# Altium integrated library ON Semi MOSFETs.IntLib: 1097 symbols (part 24 of 26)
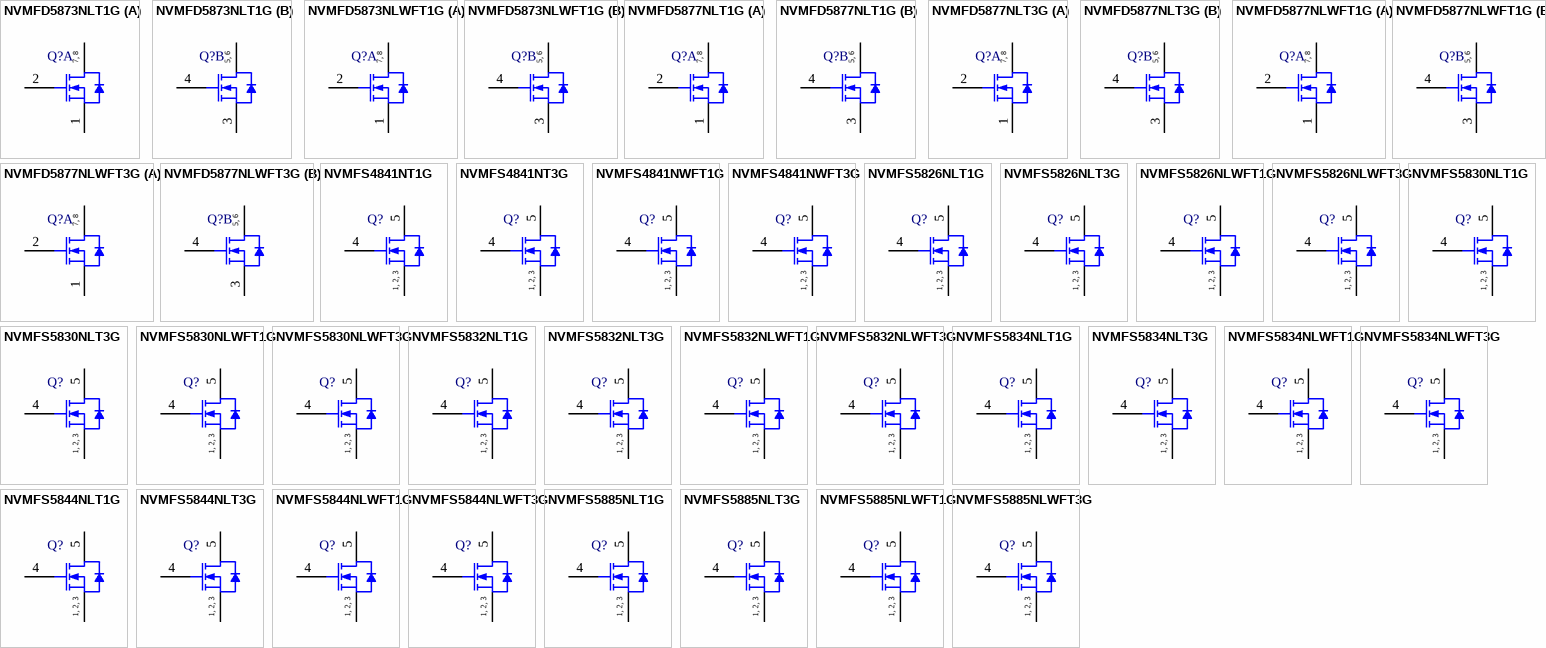
[diagram p54: symbols NVMFD5873NLT1G to NVMFS5885NLWFT3G]

## NVMFS5834NLT3G
designator Q?
Power MOSFET, 40 V, 75 A, 9.3 mOhm, Single N-Channel, 5-Pin DFN, Pb-Free, Tape and Reel; Manufacturer: On Semiconductor; PartNumber: NVMFS5834NLT3G; Channel Polarity: N Channel; Ciss Typ (pF): 1231; Coss Typ (pF): 198; Crss Typ (pF): 141; ID Max (A): 75; Qrr Typ (nC): 108; V(BR)DSS Min (V): 40; VGS Max (V): 20; VGS(th) Max (V): 3; DatasheetVersion: Rev. 5; PackageVersion: Rev. H, 03/2013; PackageReference: DFN-5-488AA; PackageDescription: 5-Pin Small Outline No-Lead, Body 4.9 x 5.9 mm, Pitch 1.27 mm; Supplier 1: Newark; Supplier Part Number 1: 60W1858; Supplier 2: Mouser; Supplier Part Number 2: 863-NVMFS5834NLT3G; Configuration: Single; Package Type: SO-8FL / DFN-5; Packing: Tape and Reel; RoHS: Pb-Free; Mounting Technology: Surface Mount; Code_JEDEC: MO-240A; ComponentLink1Description: Manufacturer URL; ComponentLink1URL: http://www.onsemi.com/; ComponentLink2Description: Datasheet; ComponentLink2URL: http://www.onsemi.com/pub_link/Collateral/NTMFS5834NL-D.PDF; ComponentLink3Description: Package Specification; ComponentLink3URL: http://www.onsemi.com/pub_link/Collateral/488AA.PDF
footprint ONSC-DFN-5-488AA_V (DFN, 5-Leads, Body 5.9x4.9mm, Pitch 1.27mm)
pins: 1 S, 2 S, 3 S, 4 G, 5 D
text: 1, 2, 3

## NVMFS5834NLWFT1G
designator Q?
Power MOSFET, 40 V, 75 A, 9.3 mOhm, Single N-Channel, 5-Pin DFN, Pb-Free, Tape and Reel; Manufacturer: On Semiconductor; PartNumber: NVMFS5834NLWFT1G; Channel Polarity: N Channel; Ciss Typ (pF): 1231; Coss Typ (pF): 198; Crss Typ (pF): 141; ID Max (A): 75; Qrr Typ (nC): 108; V(BR)DSS Min (V): 40; VGS Max (V): 20; VGS(th) Max (V): 3; DatasheetVersion: Rev. 5; PackageVersion: Rev. H, 03/2013; PackageReference: DFN-5-488AA; PackageDescription: 5-Pin Small Outline No-Lead, Body 4.9 x 5.9 mm, Pitch 1.27 mm; Supplier 1: Newark; Supplier Part Number 1: 11X3727; Supplier 2: Mouser; Supplier Part Number 2: 863-NVMFS5834NLWFT1G; Configuration: Single; Package Type: SO-8FL / DFN-5; Packing: Tape and Reel; RoHS: Pb-Free; Mounting Technology: Surface Mount; Code_JEDEC: MO-240A; ComponentLink1Description: Manufacturer URL; ComponentLink1URL: http://www.onsemi.com/; ComponentLink2Description: Datasheet; ComponentLink2URL: http://www.onsemi.com/pub_link/Collateral/NTMFS5834NL-D.PDF; ComponentLink3Description: Package Specification; ComponentLink3URL: http://www.onsemi.com/pub_link/Collateral/488AA.PDF
footprint ONSC-DFN-5-488AA_V (DFN, 5-Leads, Body 5.9x4.9mm, Pitch 1.27mm)
pins: 1 S, 2 S, 3 S, 4 G, 5 D
text: 1, 2, 3

## NVMFS5834NLWFT3G
designator Q?
Power MOSFET, 40 V, 75 A, 9.3 mOhm, Single N-Channel, 5-Pin DFN, Pb-Free, Tape and Reel; Manufacturer: On Semiconductor; PartNumber: NVMFS5834NLWFT3G; Channel Polarity: N Channel; Ciss Typ (pF): 1231; Coss Typ (pF): 198; Crss Typ (pF): 141; ID Max (A): 75; Qrr Typ (nC): 108; V(BR)DSS Min (V): 40; VGS Max (V): 20; VGS(th) Max (V): 3; DatasheetVersion: Rev. 5; PackageVersion: Rev. H, 03/2013; PackageReference: DFN-5-488AA; PackageDescription: 5-Pin Small Outline No-Lead, Body 4.9 x 5.9 mm, Pitch 1.27 mm; Supplier 1: Newark; Supplier Part Number 1: 11X3728; Supplier 2: Mouser; Supplier Part Number 2: 863-NVMFS5834NLWFT3G; Configuration: Single; Package Type: SO-8FL / DFN-5; Packing: Tape and Reel; RoHS: Pb-Free; Mounting Technology: Surface Mount; Code_JEDEC: MO-240A; ComponentLink1Description: Manufacturer URL; ComponentLink1URL: http://www.onsemi.com/; ComponentLink2Description: Datasheet; ComponentLink2URL: http://www.onsemi.com/pub_link/Collateral/NTMFS5834NL-D.PDF; ComponentLink3Description: Package Specification; ComponentLink3URL: http://www.onsemi.com/pub_link/Collateral/488AA.PDF
footprint ONSC-DFN-5-488AA_V (DFN, 5-Leads, Body 5.9x4.9mm, Pitch 1.27mm)
pins: 1 S, 2 S, 3 S, 4 G, 5 D
text: 1, 2, 3

## NVMFS5844NLT1G
designator Q?
Power MOSFET, 60 V, 61 A, 12 mOhm, Single N-Channel, 5-Pin DFN, Pb-Free, Tape and Reel; Manufacturer: On Semiconductor; PartNumber: NVMFS5844NLT1G; Channel Polarity: N Channel; Ciss Typ (pF): 1460; Coss Typ (pF): 150; Crss Typ (pF): 96; ID Max (A): 61; Qrr Typ (nC): 15; V(BR)DSS Min (V): 60; VGS Max (V): 20; VGS(th) Max (V): 2.3; DatasheetVersion: Rev. 5; PackageVersion: Rev. H, 03/2013; PackageReference: DFN-5-488AA; PackageDescription: 5-Pin Small Outline No-Lead, Body 4.9 x 5.9 mm, Pitch 1.27 mm; Supplier 1: Digi-Key; Supplier Part Number 1: NVMFS5844NLT1G-ND; Supplier 2: Newark; Supplier Part Number 2: 07W7328; Supplier 3: Mouser; Supplier Part Number 3: 863-NVMFS5844NLT1G; Configuration: Single; Package Type: SO-8FL / DFN-5; Packing: Tape and Reel; RoHS: Pb-Free; Mounting Technology: Surface Mount; Code_JEDEC: MO-240A; ComponentLink1Description: Manufacturer URL; ComponentLink1URL: http://www.onsemi.com/; ComponentLink2Description: Datasheet; ComponentLink2URL: http://www.onsemi.com/pub_link/Collateral/NTMFS5844NL-D.PDF; ComponentLink3Description: Package Specification; ComponentLink3URL: http://www.onsemi.com/pub_link/Collateral/488AA.PDF
footprint ONSC-DFN-5-488AA_V (DFN, 5-Leads, Body 5.9x4.9mm, Pitch 1.27mm)
pins: 1 S, 2 S, 3 S, 4 G, 5 D
text: 1, 2, 3

## NVMFS5844NLT3G
designator Q?
Power MOSFET, 60 V, 61 A, 12 mOhm, Single N-Channel, 5-Pin DFN, Pb-Free, Tape and Reel; Manufacturer: On Semiconductor; PartNumber: NVMFS5844NLT3G; Channel Polarity: N Channel; Ciss Typ (pF): 1460; Coss Typ (pF): 150; Crss Typ (pF): 96; ID Max (A): 61; Qrr Typ (nC): 15; V(BR)DSS Min (V): 60; VGS Max (V): 20; VGS(th) Max (V): 2.3; DatasheetVersion: Rev. 5; PackageVersion: Rev. H, 03/2013; PackageReference: DFN-5-488AA; PackageDescription: 5-Pin Small Outline No-Lead, Body 4.9 x 5.9 mm, Pitch 1.27 mm; Supplier 1: Digi-Key; Supplier Part Number 1: NVMFS5844NLT3G-ND; Supplier 2: Newark; Supplier Part Number 2: 07W7329; Supplier 3: Mouser; Supplier Part Number 3: 863-NVMFS5844NLT3G; Configuration: Single; Package Type: SO-8FL / DFN-5; Packing: Tape and Reel; RoHS: Pb-Free; Mounting Technology: Surface Mount; Code_JEDEC: MO-240A; ComponentLink1Description: Manufacturer URL; ComponentLink1URL: http://www.onsemi.com/; ComponentLink2Description: Datasheet; ComponentLink2URL: http://www.onsemi.com/pub_link/Collateral/NTMFS5844NL-D.PDF; ComponentLink3Description: Package Specification; ComponentLink3URL: http://www.onsemi.com/pub_link/Collateral/488AA.PDF
footprint ONSC-DFN-5-488AA_V (DFN, 5-Leads, Body 5.9x4.9mm, Pitch 1.27mm)
pins: 1 S, 2 S, 3 S, 4 G, 5 D
text: 1, 2, 3

## NVMFS5844NLWFT1G
designator Q?
Power MOSFET, 60 V, 61 A, 12 mOhm, Single N-Channel, 5-Pin DFN, Pb-Free, Tape and Reel; Manufacturer: On Semiconductor; PartNumber: NVMFS5844NLWFT1G; Channel Polarity: N Channel; Ciss Typ (pF): 1460; Coss Typ (pF): 150; Crss Typ (pF): 96; ID Max (A): 61; Qrr Typ (nC): 15; V(BR)DSS Min (V): 60; VGS Max (V): 20; VGS(th) Max (V): 2.3; DatasheetVersion: Rev. 5; PackageVersion: Rev. H, 03/2013; PackageReference: DFN-5-488AA; PackageDescription: 5-Pin Small Outline No-Lead, Body 4.9 x 5.9 mm, Pitch 1.27 mm; Supplier 1: Newark; Supplier Part Number 1: 11X3729; Supplier 2: Mouser; Supplier Part Number 2: 863-NVMFS5844NLWFT1G; Configuration: Single; Package Type: SO-8FL / DFN-5; Packing: Tape and Reel; RoHS: Pb-Free; Mounting Technology: Surface Mount; Code_JEDEC: MO-240A; ComponentLink1Description: Manufacturer URL; ComponentLink1URL: http://www.onsemi.com/; ComponentLink2Description: Datasheet; ComponentLink2URL: http://www.onsemi.com/pub_link/Collateral/NTMFS5844NL-D.PDF; ComponentLink3Description: Package Specification; ComponentLink3URL: http://www.onsemi.com/pub_link/Collateral/488AA.PDF
footprint ONSC-DFN-5-488AA_V (DFN, 5-Leads, Body 5.9x4.9mm, Pitch 1.27mm)
pins: 1 S, 2 S, 3 S, 4 G, 5 D
text: 1, 2, 3

## NVMFS5844NLWFT3G
designator Q?
Power MOSFET, 60 V, 61 A, 12 mOhm, Single N-Channel, 5-Pin DFN, Pb-Free, Tape and Reel; Manufacturer: On Semiconductor; PartNumber: NVMFS5844NLWFT3G; Channel Polarity: N Channel; Ciss Typ (pF): 1460; Coss Typ (pF): 150; Crss Typ (pF): 96; ID Max (A): 61; Qrr Typ (nC): 15; V(BR)DSS Min (V): 60; VGS Max (V): 20; VGS(th) Max (V): 2.3; DatasheetVersion: Rev. 5; PackageVersion: Rev. H, 03/2013; PackageReference: DFN-5-488AA; PackageDescription: 5-Pin Small Outline No-Lead, Body 4.9 x 5.9 mm, Pitch 1.27 mm; Supplier 1: Newark; Supplier Part Number 1: 11X3730; Supplier 2: Mouser; Supplier Part Number 2: 863-NVMFS5844NLWFT3G; Configuration: Single; Package Type: SO-8FL / DFN-5; Packing: Tape and Reel; RoHS: Pb-Free; Mounting Technology: Surface Mount; Code_JEDEC: MO-240A; ComponentLink1Description: Manufacturer URL; ComponentLink1URL: http://www.onsemi.com/; ComponentLink2Description: Datasheet; ComponentLink2URL: http://www.onsemi.com/pub_link/Collateral/NTMFS5844NL-D.PDF; ComponentLink3Description: Package Specification; ComponentLink3URL: http://www.onsemi.com/pub_link/Collateral/488AA.PDF
footprint ONSC-DFN-5-488AA_V (DFN, 5-Leads, Body 5.9x4.9mm, Pitch 1.27mm)
pins: 1 S, 2 S, 3 S, 4 G, 5 D
text: 1, 2, 3

## NVMFS5885NLT1G
designator Q?
Power MOSFET, 60 V, 39 A, 15 mOhm, Single N-Channel, 5-Pin DFN, Pb-Free, Tape and Reel; Manufacturer: On Semiconductor; PartNumber: NVMFS5885NLT1G; Channel Polarity: N Channel; Ciss Typ (pF): 1340; Coss Typ (pF): 125; Crss Typ (pF): 85; ID Max (A): 39; Qrr Typ (nC): 16; V(BR)DSS Min (V): 60; VGS Max (V): 20; VGS(th) Max (V): 2.5; DatasheetVersion: Rev. 3; PackageVersion: Rev. H, 03/2013; PackageReference: DFN-5-488AA; PackageDescription: 5-Pin Small Outline No-Lead, Body 4.9 x 5.9 mm, Pitch 1.27 mm; Supplier 1: Newark; Supplier Part Number 1: 60W1859; Supplier 2: Mouser; Supplier Part Number 2: 863-NVMFS5885NLT1G; Configuration: Single; Package Type: SO-8FL / DFN-5; Packing: Tape and Reel; RoHS: Pb-Free; Mounting Technology: Surface Mount; Code_JEDEC: MO-240A; ComponentLink1Description: Manufacturer URL; ComponentLink1URL: http://www.onsemi.com/; ComponentLink2Description: Datasheet; ComponentLink2URL: http://www.onsemi.com/pub_link/Collateral/NVMFS5885NL-D.PDF; ComponentLink3Description: Package Specification; ComponentLink3URL: http://www.onsemi.com/pub_link/Collateral/488AA.PDF
footprint ONSC-DFN-5-488AA_V (DFN, 5-Leads, Body 5.9x4.9mm, Pitch 1.27mm)
pins: 1 S, 2 S, 3 S, 4 G, 5 D
text: 1, 2, 3

## NVMFS5885NLT3G
designator Q?
Power MOSFET, 60 V, 39 A, 15 mOhm, Single N-Channel, 5-Pin DFN, Pb-Free, Tape and Reel; Manufacturer: On Semiconductor; PartNumber: NVMFS5885NLT3G; Channel Polarity: N Channel; Ciss Typ (pF): 1340; Coss Typ (pF): 125; Crss Typ (pF): 85; ID Max (A): 39; Qrr Typ (nC): 16; V(BR)DSS Min (V): 60; VGS Max (V): 20; VGS(th) Max (V): 2.5; DatasheetVersion: Rev. 3; PackageVersion: Rev. H, 03/2013; PackageReference: DFN-5-488AA; PackageDescription: 5-Pin Small Outline No-Lead, Body 4.9 x 5.9 mm, Pitch 1.27 mm; Supplier 1: Newark; Supplier Part Number 1: 60W1860; Supplier 2: Mouser; Supplier Part Number 2: 863-NVMFS5885NLT3G; Configuration: Single; Package Type: SO-8FL / DFN-5; Packing: Tape and Reel; RoHS: Pb-Free; Mounting Technology: Surface Mount; Code_JEDEC: MO-240A; ComponentLink1Description: Manufacturer URL; ComponentLink1URL: http://www.onsemi.com/; ComponentLink2Description: Datasheet; ComponentLink2URL: http://www.onsemi.com/pub_link/Collateral/NVMFS5885NL-D.PDF; ComponentLink3Description: Package Specification; ComponentLink3URL: http://www.onsemi.com/pub_link/Collateral/488AA.PDF
footprint ONSC-DFN-5-488AA_V (DFN, 5-Leads, Body 5.9x4.9mm, Pitch 1.27mm)
pins: 1 S, 2 S, 3 S, 4 G, 5 D
text: 1, 2, 3

## NVMFS5885NLWFT1G
designator Q?
Power MOSFET, 60 V, 39 A, 15 mOhm, Single N-Channel, 5-Pin DFN, Pb-Free, Tape and Reel; Manufacturer: On Semiconductor; PartNumber: NVMFS5885NLWFT1G; Channel Polarity: N Channel; Ciss Typ (pF): 1340; Coss Typ (pF): 125; Crss Typ (pF): 85; ID Max (A): 39; Qrr Typ (nC): 16; V(BR)DSS Min (V): 60; VGS Max (V): 20; VGS(th) Max (V): 2.5; DatasheetVersion: Rev. 3; PackageVersion: Rev. H, 03/2013; PackageReference: DFN-5-488AA; PackageDescription: 5-Pin Small Outline No-Lead, Body 4.9 x 5.9 mm, Pitch 1.27 mm; Supplier 1: Newark; Supplier Part Number 1: 11X3731; Supplier 2: Mouser; Supplier Part Number 2: 863-NVMFS5885NLWFT1G; Configuration: Single; Package Type: SO-8FL / DFN-5; Packing: Tape and Reel; RoHS: Pb-Free; Mounting Technology: Surface Mount; Code_JEDEC: MO-240A; ComponentLink1Description: Manufacturer URL; ComponentLink1URL: http://www.onsemi.com/; ComponentLink2Description: Datasheet; ComponentLink2URL: http://www.onsemi.com/pub_link/Collateral/NVMFS5885NL-D.PDF; ComponentLink3Description: Package Specification; ComponentLink3URL: http://www.onsemi.com/pub_link/Collateral/488AA.PDF
footprint ONSC-DFN-5-488AA_V (DFN, 5-Leads, Body 5.9x4.9mm, Pitch 1.27mm)
pins: 1 S, 2 S, 3 S, 4 G, 5 D
text: 1, 2, 3

## NVMFS5885NLWFT3G
designator Q?
Power MOSFET, 60 V, 39 A, 15 mOhm, Single N-Channel, 5-Pin DFN, Pb-Free, Tape and Reel; Manufacturer: On Semiconductor; PartNumber: NVMFS5885NLWFT3G; Channel Polarity: N Channel; Ciss Typ (pF): 1340; Coss Typ (pF): 125; Crss Typ (pF): 85; ID Max (A): 39; Qrr Typ (nC): 16; V(BR)DSS Min (V): 60; VGS Max (V): 20; VGS(th) Max (V): 2.5; DatasheetVersion: Rev. 3; PackageVersion: Rev. H, 03/2013; PackageReference: DFN-5-488AA; PackageDescription: 5-Pin Small Outline No-Lead, Body 4.9 x 5.9 mm, Pitch 1.27 mm; Supplier 1: Newark; Supplier Part Number 1: 11X3732; Supplier 2: Mouser; Supplier Part Number 2: 863-NVMFS5885NLWFT3G; Configuration: Single; Package Type: SO-8FL / DFN-5; Packing: Tape and Reel; RoHS: Pb-Free; Mounting Technology: Surface Mount; Code_JEDEC: MO-240A; ComponentLink1Description: Manufacturer URL; ComponentLink1URL: http://www.onsemi.com/; ComponentLink2Description: Datasheet; ComponentLink2URL: http://www.onsemi.com/pub_link/Collateral/NVMFS5885NL-D.PDF; ComponentLink3Description: Package Specification; ComponentLink3URL: http://www.onsemi.com/pub_link/Collateral/488AA.PDF
footprint ONSC-DFN-5-488AA_V (DFN, 5-Leads, Body 5.9x4.9mm, Pitch 1.27mm)
pins: 1 S, 2 S, 3 S, 4 G, 5 D
text: 1, 2, 3

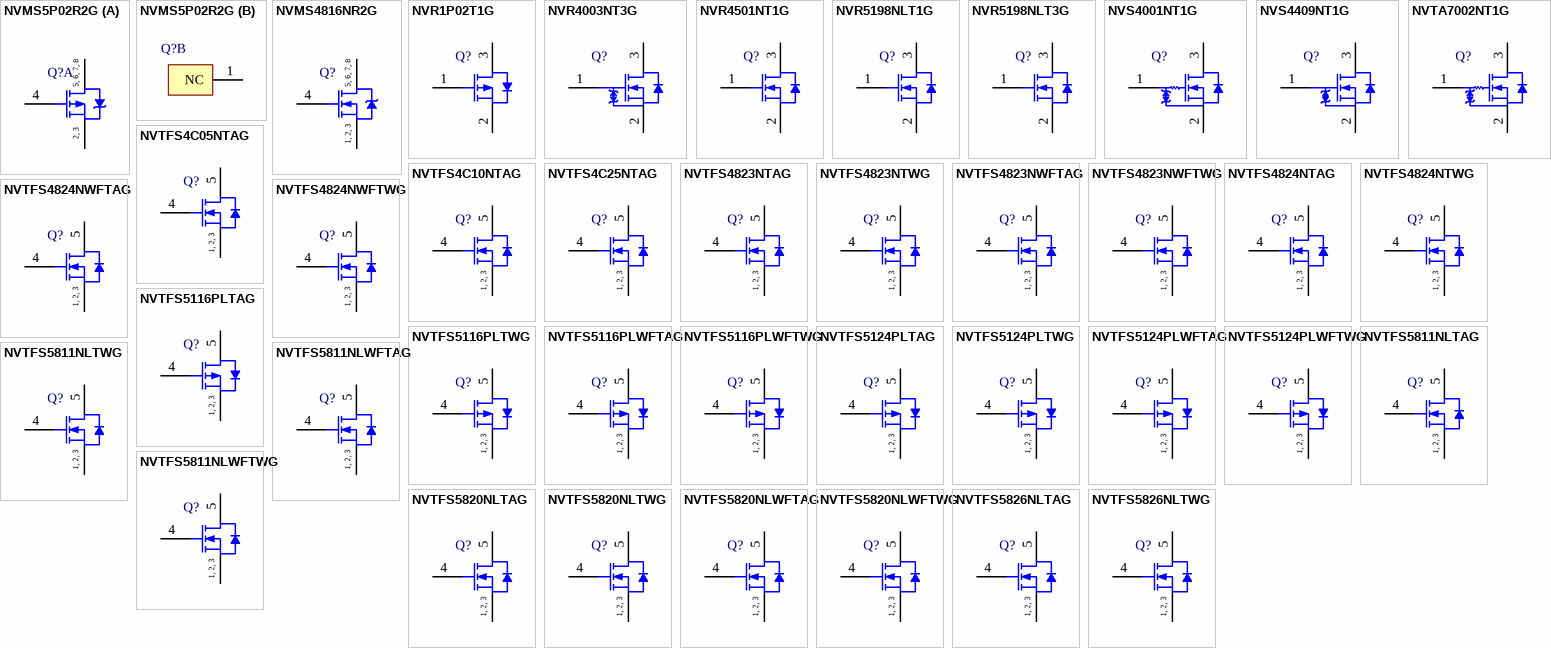
[diagram p29: symbols NVMS5P02R2G to NVTFS5826NLTWG]

## NVMS5P02R2G
designator Q?
Power MOSFET, -5.4 A, -20 V, Single P-Channel Enhancement-Mode, 8-Pin SOIC, Pb-Free, Tape and Reel; Manufacturer: On Semiconductor; PartNumber: NVMS5P02R2G; Channel Polarity: P Channel; Ciss Typ (pF): 1375; Coss Typ (pF): 510; Crss Typ (pF): 200; ID Max (A): 5.4; Qrr Typ (nC): 30; V(BR)DSS Min (V): 20; VGS Max (V): 10; VGS(th) Max (V): 1.25; DatasheetVersion: Rev. 3; PackageVersion: Rev. AK, 02/2011; PackageReference: SOIC-8-751-07; PackageDescription: 8-Pin Small Outline Integrated Circuit, Body 4.9 x 3.9 mm, Pitch 1.27 mm; Configuration: Single; Package Type: SOIC-8; Packing: Tape and Reel; RoHS: Pb-Free; Mounting Technology: Surface Mount; ComponentLink1Description: Manufacturer URL; ComponentLink1URL: http://www.onsemi.com/; ComponentLink2Description: Datasheet; ComponentLink2URL: http://www.onsemi.cn/pub_link/Collateral/NTMS5P02R2-D.PDF; ComponentLink3Description: Package Specification; ComponentLink3URL: http://www.onsemi.com/pub_link/Collateral/751-07.PDF
footprint ONSC-SOIC-8-751-07_V (SOIC, 8-Leads, Body 4.9x3.9mm, Pitch 1.27mm)
part A pins: 2 S, 3 S, 4 G, 5 D, 6 D, 7 D, 8 D
part B pins: 1 NC
part A text: 5, 6, 7, 8; 2, 3

## NVMS4816NR2G
designator Q?
Power MOSFET, 30 V, 11 A, N-Channel, 8-Pin SOIC, Pb-Free, Tape and Reel; Manufacturer: On Semiconductor; PartNumber: NVMS4816NR2G; Channel Polarity: N Channel; Ciss Typ (pF): 1060; Configuration: Single; Coss Typ (pF): 220; Crss Typ (pF): 126; ID Max (A): 11; Qrr Typ (nC): 9; V(BR)DSS Min (V): 30; VGS Max (V): 20; VGS(th) Max (V): 3; DatasheetVersion: Rev. 2; PackageVersion: Rev. AK, 02/2011; PackageReference: SOIC-8-751-07; PackageDescription: 8-Pin Small Outline Integrated Circuit, Body 4.9 x 3.9 mm, Pitch 1.27 mm; Package Type: SOIC-8; Packing: Tape and Reel; RoHS: Pb-Free; Mounting Technology: Surface Mount; ComponentLink1Description: Manufacturer URL; ComponentLink1URL: http://www.onsemi.com/; ComponentLink2Description: Datasheet; ComponentLink2URL: http://www.onsemi.cn/pub_link/Collateral/NTMS4816N-D.PDF; ComponentLink3Description: Package Specification; ComponentLink3URL: http://www.onsemi.com/pub_link/Collateral/751-07.PDF
footprint ONSC-SOIC-8-751-07_V (SOIC, 8-Leads, Body 4.9x3.9mm, Pitch 1.27mm)
pins: 1 S, 2 S, 3 S, 4 G, 5 D, 6 D, 7 D, 8 D
text: 5, 6, 7, 8; 1, 2, 3

## NVR1P02T1G
designator Q?
Power MOSFET, -20 V, -1 A, P-Channel, 3-Pin SOT-23, Pb-Free, Tape and Reel; Manufacturer: On Semiconductor; PartNumber: NVR1P02T1G; Channel Polarity: P Channel; Ciss Typ (pF): 165; Configuration: Single; Coss Typ (pF): 110; Crss Typ (pF): 35; ID Max (A): 1; PD Max (W): 0.4; Qrr Typ (nC): 8; V(BR)DSS Min (V): 20; VGS(th) Max (V): 2.3; DatasheetVersion: Rev. 7; PackageVersion: Rev. AP, 11/2009; PackageReference: SOT-23-3-318-08; PackageDescription: 3-Pin Small Outline Transistor, Body 2.92 x 1.3 mm, Pitch 0.95 mm; Package Type: SOT-23-3; Packing: Tape and Reel; RoHS: Pb-Free; VGS Max (V): 20; Mounting Technology: Surface Mount; ComponentLink1Description: Manufacturer URL; ComponentLink1URL: http://www.onsemi.com/; ComponentLink2Description: Datasheet; ComponentLink2URL: http://www.onsemi.cn/pub_link/Collateral/NTR1P02T1-D.PDF; ComponentLink3Description: Package Specification; ComponentLink3URL: http://www.onsemi.cn/pub_link/Collateral/318-08.PDF
footprint ONSC-SOT-23-3-318-08_V (SOT23, 3-Leads, Body 2.92x1.3mm, Pitch 0.95mm)
pins: 1 G, 2 S, 3 D

## NVR4003NT3G
designator Q?
Small Signal MOSFET, 30 V, 0.56 A, Single N-Channel, 3-Pin SOT-23, Pb-Free, Tape and Reel; Manufacturer: On Semiconductor; PartNumber: NVR4003NT3G; Channel Polarity: N Channel; Ciss Typ (pF): 21; Coss Typ (pF): 19.7; Crss Typ (pF): 8.1; ID Max (A): 0.56; V(BR)DSS Min (V): 30; VGS Max (V): 20; VGS(th) Max (V): 1.4; DatasheetVersion: Rev. 3; PackageVersion: Rev. AP, 11/2009; PackageReference: SOT-23-3-318-08; PackageDescription: 3-Pin Small Outline Transistor, Body 2.92 x 1.3 mm, Pitch 0.95 mm; Supplier 1: Digi-Key; Supplier Part Number 1: NVR4003NT3G-ND; Supplier 2: Newark; Supplier Part Number 2: 76T6792; Supplier 3: Mouser; Supplier Part Number 3: 863-NVR4003NT3G; Configuration: Single; Package Type: SOT-23-3; Packing: Tape and Reel; RoHS: Pb-Free; Mounting Technology: Surface Mount; ComponentLink1Description: Manufacturer URL; ComponentLink1URL: http://www.onsemi.com/; ComponentLink2Description: Datasheet; ComponentLink2URL: http://www.onsemi.cn/pub_link/Collateral/NTR4003N-D.PDF; ComponentLink3Description: Package Specification; ComponentLink3URL: http://www.onsemi.cn/pub_link/Collateral/318-08.PDF
footprint ONSC-SOT-23-3-318-08_V (SOT23, 3-Leads, Body 2.92x1.3mm, Pitch 0.95mm)
pins: 1 G, 2 S, 3 D

## NVR4501NT1G
designator Q?
Power MOSFET, 20 V, 3.2 A, Single N-Channel, 3-Pin SOT-23, Pb-Free, Tape and Reel; Manufacturer: On Semiconductor; PartNumber: NVR4501NT1G; Channel Polarity: N Channel; Ciss Typ (pF): 200; Coss Typ (pF): 80; Crss Typ (pF): 50; PD Max (W): 1.25; Qrr Typ (nC): 3; V(BR)DSS Min (V): 20; VGS Max (V): 12; VGS(th) Max (V): 1.2; DatasheetVersion: Rev. 13; PackageVersion: Rev. AP, 11/2009; PackageReference: SOT-23-3-318-08; PackageDescription: 3-Pin Small Outline Transistor, Body 2.92 x 1.3 mm, Pitch 0.95 mm; Supplier 1: Newark; Supplier Part Number 1: 60W1861; Supplier 2: Mouser; Supplier Part Number 2: 863-NVR4501NT1G; Configuration: Single; Package Type: SOT-23-3; Packing: Tape and Reel; RoHS: Pb-Free; Mounting Technology: Surface Mount; ComponentLink1Description: Manufacturer URL; ComponentLink1URL: http://www.onsemi.com/; ComponentLink2Description: Datasheet; ComponentLink2URL: http://www.onsemi.cn/pub_link/Collateral/NTR4501N-D.PDF; ComponentLink3Description: Package Specification; ComponentLink3URL: http://www.onsemi.cn/pub_link/Collateral/318-08.PDF
footprint ONSC-SOT-23-3-318-08_V (SOT23, 3-Leads, Body 2.92x1.3mm, Pitch 0.95mm)
pins: 1 G, 2 S, 3 D

## NVR5198NLT1G
designator Q?
Power MOSFET, 60 V, 155 mOhm, Single N-Channel Logic Level, 3-Pin SOT-23, Pb-Free, Tape and Reel; Manufacturer: On Semiconductor; PartNumber: NVR5198NLT1G; Channel Polarity: N Channel; Ciss Typ (pF): 182; Coss Typ (pF): 25; Crss Typ (pF): 16; ID Max (A): 2.2; Qrr Typ (nC): 6; V(BR)DSS Min (V): 60; VGS Max (V): 20; VGS(th) Max (V): 2.5; DatasheetVersion: Rev. 1; PackageVersion: Rev. AP, 11/2009; PackageReference: SOT-23-3-318-08; PackageDescription: 3-Pin Small Outline Transistor, Body 2.92 x 1.3 mm, Pitch 0.95 mm; Supplier 1: Newark; Supplier Part Number 1: 11X3733; Supplier 2: Mouser; Supplier Part Number 2: 863-NVR5198NLT1G; Configuration: Single; Package Type: SOT-23-3; Packing: Tape and Reel; RoHS: Pb-Free; Mounting Technology: Surface Mount; ComponentLink1Description: Manufacturer URL; ComponentLink1URL: http://www.onsemi.com/; ComponentLink2Description: Datasheet; ComponentLink2URL: http://www.onsemi.com/pub_link/Collateral/NVR5198NL-D.PDF; ComponentLink3Description: Package Specification; ComponentLink3URL: http://www.onsemi.cn/pub_link/Collateral/318-08.PDF
footprint ONSC-SOT-23-3-318-08_V (SOT23, 3-Leads, Body 2.92x1.3mm, Pitch 0.95mm)
pins: 1 G, 2 S, 3 D

## NVR5198NLT3G
designator Q?
Power MOSFET, 60 V, 155 mOhm, Single N-Channel Logic Level, 3-Pin SOT-23, Pb-Free, Tape and Reel; Manufacturer: On Semiconductor; PartNumber: NVR5198NLT3G; Channel Polarity: N Channel; Ciss Typ (pF): 182; Coss Typ (pF): 25; Crss Typ (pF): 16; ID Max (A): 2.2; Qrr Typ (nC): 6; V(BR)DSS Min (V): 60; VGS Max (V): 20; VGS(th) Max (V): 2.5; DatasheetVersion: Rev. 1; PackageVersion: Rev. AP, 11/2009; PackageReference: SOT-23-3-318-08; PackageDescription: 3-Pin Small Outline Transistor, Body 2.92 x 1.3 mm, Pitch 0.95 mm; Supplier 1: Newark; Supplier Part Number 1: 11X3734; Supplier 2: Mouser; Supplier Part Number 2: 863-NVR5198NLT3G; Configuration: Single; Package Type: SOT-23-3; Packing: Tape and Reel; RoHS: Pb-Free; Mounting Technology: Surface Mount; ComponentLink1Description: Manufacturer URL; ComponentLink1URL: http://www.onsemi.com/; ComponentLink2Description: Datasheet; ComponentLink2URL: http://www.onsemi.com/pub_link/Collateral/NVR5198NL-D.PDF; ComponentLink3Description: Package Specification; ComponentLink3URL: http://www.onsemi.cn/pub_link/Collateral/318-08.PDF
footprint ONSC-SOT-23-3-318-08_V (SOT23, 3-Leads, Body 2.92x1.3mm, Pitch 0.95mm)
pins: 1 G, 2 S, 3 D

## NVS4001NT1G
designator Q?
Small Signal MOSFET, 30 V, 270 mA, N-Channel, 3-Pin SC70, Pb-Free, Tape and Reel; Manufacturer: On Semiconductor; PartNumber: NVS4001NT1G; Channel Polarity: N Channel; Ciss Typ (pF): 20; Configuration: Single; Coss Typ (pF): 19; Crss Typ (pF): 7.25; ID Max (A): 0.27; PD Max (W): 0.33; V(BR)DSS Min (V): 30; VGS(th) Max (V): 1.5; DatasheetVersion: Rev. 5; PackageVersion: Rev. N, 11/2008; PackageReference: SC-70-3-419-04; PackageDescription: 3-Pin Small Outline Transistor, Body 2 x 1.25 mm, Pitch 0.65 mm; Supplier 1: Newark; Supplier Part Number 1: 60W1862; Supplier 2: Mouser; Supplier Part Number 2: 863-NVS4001NT1G; Package Type: SC-70-3; Packing: Tape and Reel; RoHS: Pb-Free; VGS Max (V): 20; Mounting Technology: Surface Mount; ComponentLink1Description: Manufacturer URL; ComponentLink1URL: http://www.onsemi.com/; ComponentLink2Description: Datasheet; ComponentLink2URL: http://www.onsemi.cn/pub_link/Collateral/NTS4001N-D.PDF; ComponentLink3Description: Package Specification; ComponentLink3URL: http://www.onsemi.cn/pub_link/Collateral/419-04.PDF
footprint ONSC-SC-70-3-419-04_V (SOT23, 3-Leads, Body 2x1.25mm, Pitch 0.65mm)
pins: 1 G, 2 S, 3 D

## NVS4409NT1G
designator Q?
Small Signal MOSFET, 25 V, 0.75 A, Single, N-Channel, ESD Protection, 3-Pin SOT-323, Pb-Free, Tape and Reel; Manufacturer: On Semiconductor; PartNumber: NVS4409NT1G; Channel Polarity: N Channel; Ciss Typ (pF): 49; Coss Typ (pF): 22.4; Crss Typ (pF): 8; ID Max (A): 0.75; V(BR)DSS Min (V): 25; VGS(th) Max (V): 1.5; DatasheetVersion: Rev. 4; PackageVersion: Rev. N, 11/2008; PackageReference: SOT-323-3-419-04; PackageDescription: 3-Pin Small Outline Transistor, Body 2 x 1.25 mm, Pitch 0.65 mm; Supplier 1: Newark; Supplier Part Number 1: 92T2215; Supplier 2: Mouser; Supplier Part Number 2: 863-NVS4409NT1G; Configuration: Single; Package Type: SC-70-3 / SOT-323-3; Packing: Tape and Reel; RoHS: Pb-Free; VGS Max (V): 8; Mounting Technology: Surface Mount; ComponentLink1Description: Manufacturer URL; ComponentLink1URL: http://www.onsemi.com/; ComponentLink2Description: Datasheet; ComponentLink2URL: http://www.onsemi.cn/pub_link/Collateral/NTS4409N-D.PDF; ComponentLink3Description: Package Specification; ComponentLink3URL: http://www.onsemi.com/pub_link/Collateral/419-04.PDF
footprint ONSC-SOT-323-3-419-04_V (SOT23, 3-Leads, Body 2x1.25mm, Pitch 0.65mm)
pins: 1 G, 2 S, 3 D

## NVTA7002NT1G
designator Q?
Small Signal MOSFET, 30 V, 154 mA, N-Channel, Gate ESD Protection, 3-Pin SC-75, Pb-Free, Tape and Reel; Manufacturer: On Semiconductor; PartNumber: NVTA7002NT1G; Channel Polarity: N Channel; Ciss Typ (pF): 11.5; Configuration: Single; Coss Typ (pF): 10; Crss Typ (pF): 3.5; ID Max (A): 0.154; PD Max (W): 0.3; V(BR)DSS Min (V): 30; VGS(th) Max (V): 1.5; DatasheetVersion: Rev. 5; PackageVersion: Rev. F, 07/2005; PackageReference: SC-75-3-463-01; PackageDescription: 3-Pin Small Outline Transistor, Body 1.6 x 0.8 mm, Pitch 0.5 mm; Package Type: SC-75-3; Packing: Tape and Reel; RoHS: Pb-Free; VGS Max (V): 10; Mounting Technology: Surface Mount; ComponentLink1Description: Manufacturer URL; ComponentLink1URL: http://www.onsemi.com/; ComponentLink2Description: Datasheet; ComponentLink2URL: http://www.onsemi.cn/pub_link/Collateral/NTA7002N-D.PDF; ComponentLink3Description: Package Specification; ComponentLink3URL: http://www.onsemi.com/pub_link/Collateral/463-01.PDF
footprint ONSC-SC-75-3-463-01_V (SOT23, 3-Leads, Body 1.6x0.8mm, Pitch 0.5mm)
pins: 1 G, 2 S, 3 D

## NVTFS4C05NTAG
designator Q?
Power MOSFET, 30 V, 102 A, 3.6 mOhm, Single N-Channel, 8-Pin WDFN, Pb-Free, Tape and Reel; Manufacturer: On Semiconductor; PartNumber: NVTFS4C05NTAG; Channel Polarity: N Channel; Ciss Typ (pF): 1988; Coss Typ (pF): 1224; Crss Typ (pF): 71; ID Max (A): 102; Qrr Typ (nC): 34.4; V(BR)DSS Min (V): 30; VGS Max (V): 20; VGS(th) Max (V): 2.2; DatasheetVersion: Rev. 0; PackageVersion: Rev. D, 04/2012; PackageReference: WDFN-8-511AB; PackageDescription: 8-Pin Small Outline No-Lead, Body 3.05 x 3.05 mm, Pitch 0.65 mm; Supplier 1: Newark; Supplier Part Number 1: 97W6403; Supplier 2: Mouser; Supplier Part Number 2: 863-NVTFS4C05NTAG; Configuration: Single; Package Type: u8FL / WDFN-8; Packing: Tape and Reel; RoHS: Pb-Free; Mounting Technology: Surface Mount; ComponentLink1Description: Manufacturer URL; ComponentLink1URL: http://www.onsemi.com/; ComponentLink2Description: Datasheet; ComponentLink2URL: http://www.onsemi.com/pub_link/Collateral/NVTFS4C05N-D.PDF; ComponentLink3Description: Package Specification; ComponentLink3URL: http://www.onsemi.com/pub_link/Collateral/511AB.PDF
footprint ONSC-WDFN-8-511AB_V (DFN, 8-Leads, Body 3.05x3.05mm, Pitch 0.65mm)
pins: 1 S, 2 S, 3 S, 4 G, 5 D
text: 1, 2, 3

## NVTFS4C10NTAG
designator Q?
Power MOSFET, 30 V, 47 A, 7.4 mOhm, Single N-Channel, 8-Pin WDFN, Pb-Free, Tape and Reel; Manufacturer: On Semiconductor; PartNumber: NVTFS4C10NTAG; Channel Polarity: N Channel; Ciss Typ (pF): 993; Coss Typ (pF): 574; Crss Typ (pF): 163; ID Max (A): 47; Qrr Typ (nC): 8.3; V(BR)DSS Min (V): 30; VGS Max (V): 20; VGS(th) Max (V): 2.2; DatasheetVersion: Rev. 0; PackageVersion: Rev. D, 04/2012; PackageReference: WDFN-8-511AB; PackageDescription: 8-Pin Small Outline No-Lead, Body 3.05 x 3.05 mm, Pitch 0.65 mm; Supplier 1: Newark; Supplier Part Number 1: 97W6404; Supplier 2: Mouser; Supplier Part Number 2: 863-NVTFS4C10NTAG; Configuration: Single; Package Type: u8FL / WDFN-8; Packing: Tape and Reel; RoHS: Pb-Free; Mounting Technology: Surface Mount; ComponentLink1Description: Manufacturer URL; ComponentLink1URL: http://www.onsemi.com/; ComponentLink2Description: Datasheet; ComponentLink2URL: http://www.onsemi.com/pub_link/Collateral/NVTFS4C10N-D.PDF; ComponentLink3Description: Package Specification; ComponentLink3URL: http://www.onsemi.com/pub_link/Collateral/511AB.PDF
footprint ONSC-WDFN-8-511AB_V (DFN, 8-Leads, Body 3.05x3.05mm, Pitch 0.65mm)
pins: 1 S, 2 S, 3 S, 4 G, 5 D
text: 1, 2, 3

## NVTFS4C25NTAG
designator Q?
Power MOSFET, 30 V, 17 mOhm, 22 A, Single N-Channel, 8-Pin WDFN, Pb-Free, Tape and Reel; Manufacturer: On Semiconductor; PartNumber: NVTFS4C25NTAG; Channel Polarity: N Channel; Ciss Typ (pF): 500; Coss Typ (pF): 295; Crss Typ (pF): 85; ID Max (A): 22; Qrr Typ (nC): 5.7; V(BR)DSS Min (V): 30; VGS Max (V): 20; VGS(th) Max (V): 2.2; DatasheetVersion: Rev. 0; PackageVersion: Rev. D, 04/2012; PackageReference: WDFN-8-511AB; PackageDescription: 8-Pin Small Outline No-Lead, Body 3.05 x 3.05 mm, Pitch 0.65 mm; Supplier 1: Newark; Supplier Part Number 1: 97W6405; Supplier 2: Mouser; Supplier Part Number 2: 863-NVTFS4C25NTAG; Configuration: Single; Package Type: u8FL / WDFN-8; Packing: Tape and Reel; RoHS: Pb-Free; Mounting Technology: Surface Mount; ComponentLink1Description: Manufacturer URL; ComponentLink1URL: http://www.onsemi.com/; ComponentLink2Description: Datasheet; ComponentLink2URL: http://www.onsemi.com/pub_link/Collateral/NVTFS4C25N-D.PDF; ComponentLink3Description: Package Specification; ComponentLink3URL: http://www.onsemi.com/pub_link/Collateral/511AB.PDF
footprint ONSC-WDFN-8-511AB_V (DFN, 8-Leads, Body 3.05x3.05mm, Pitch 0.65mm)
pins: 1 S, 2 S, 3 S, 4 G, 5 D
text: 1, 2, 3

## NVTFS4823NTAG
designator Q?
Power MOSFET, 30 V, 30 A, 10.5 mOhm, Single N-Channel, 8-Pin WDFN, Pb-Free, Tape and Reel; Manufacturer: On Semiconductor; PartNumber: NVTFS4823NTAG; Channel Polarity: N Channel; Ciss Typ (pF): 750; Coss Typ (pF): 175; Crss Typ (pF): 100; ID Max (A): 30; Qrr Typ (nC): 5; VGS Max (V): 20; VGS(th) Max (V): 2.5; DatasheetVersion: Rev. 2; PackageVersion: Rev. D, 04/2012; PackageReference: WDFN-8-511AB; PackageDescription: 8-Pin Small Outline No-Lead, Body 3.05 x 3.05 mm, Pitch 0.65 mm; Supplier 1: Digi-Key; Supplier Part Number 1: NVTFS4823NTAG-ND; Supplier 2: Mouser; Supplier Part Number 2: 863-NVTFS4823NTAG; Configuration: Single; Package Type: u8FL / WDFN-8; Packing: Tape and Reel; RoHS: Pb-Free; V(BR)DSS Min (V): 30; Mounting Technology: Surface Mount; ComponentLink1Description: Manufacturer URL; ComponentLink1URL: http://www.onsemi.com/; ComponentLink2Description: Datasheet; ComponentLink2URL: http://www.onsemi.com/pub_link/Collateral/NVTFS4823N-D.PDF; ComponentLink3Description: Package Specification; ComponentLink3URL: http://www.onsemi.com/pub_link/Collateral/511AB.PDF
footprint ONSC-WDFN-8-511AB_V (DFN, 8-Leads, Body 3.05x3.05mm, Pitch 0.65mm)
pins: 1 S, 2 S, 3 S, 4 G, 5 D
text: 1, 2, 3

## NVTFS4823NTWG
designator Q?
Power MOSFET, 30 V, 30 A, 10.5 mOhm, Single N-Channel, 8-Pin WDFN, Pb-Free, Tape and Reel; Manufacturer: On Semiconductor; PartNumber: NVTFS4823NTWG; Channel Polarity: N Channel; Ciss Typ (pF): 750; Coss Typ (pF): 175; Crss Typ (pF): 100; ID Max (A): 30; Qrr Typ (nC): 5; VGS Max (V): 20; VGS(th) Max (V): 2.5; DatasheetVersion: Rev. 2; PackageVersion: Rev. D, 04/2012; PackageReference: WDFN-8-511AB; PackageDescription: 8-Pin Small Outline No-Lead, Body 3.05 x 3.05 mm, Pitch 0.65 mm; Supplier 1: Digi-Key; Supplier Part Number 1: NVTFS4823NTWG-ND; Supplier 2: Mouser; Supplier Part Number 2: 863-NVTFS4823NTWG; Configuration: Single; Package Type: u8FL / WDFN-8; Packing: Tape and Reel; RoHS: Pb-Free; V(BR)DSS Min (V): 30; Mounting Technology: Surface Mount; ComponentLink1Description: Manufacturer URL; ComponentLink1URL: http://www.onsemi.com/; ComponentLink2Description: Datasheet; ComponentLink2URL: http://www.onsemi.com/pub_link/Collateral/NVTFS4823N-D.PDF; ComponentLink3Description: Package Specification; ComponentLink3URL: http://www.onsemi.com/pub_link/Collateral/511AB.PDF
footprint ONSC-WDFN-8-511AB_V (DFN, 8-Leads, Body 3.05x3.05mm, Pitch 0.65mm)
pins: 1 S, 2 S, 3 S, 4 G, 5 D
text: 1, 2, 3

## NVTFS4823NWFTAG
designator Q?
Power MOSFET, 30 V, 30 A, 10.5 mOhm, Single N-Channel, 8-Pin WDFN, Pb-Free, Tape and Reel; Manufacturer: On Semiconductor; PartNumber: NVTFS4823NWFTAG; Channel Polarity: N Channel; Ciss Typ (pF): 750; Coss Typ (pF): 175; Crss Typ (pF): 100; ID Max (A): 30; Qrr Typ (nC): 5; VGS Max (V): 20; VGS(th) Max (V): 2.5; DatasheetVersion: Rev. 2; PackageVersion: Rev. D, 04/2012; PackageReference: WDFN-8-511AB; PackageDescription: 8-Pin Small Outline No-Lead, Body 3.05 x 3.05 mm, Pitch 0.65 mm; Supplier 1: Newark; Supplier Part Number 1: 11X3735; Supplier 2: Mouser; Supplier Part Number 2: 863-NVTFS4823NWFTAG; Configuration: Single; Package Type: u8FL / WDFN-8; Packing: Tape and Reel; RoHS: Pb-Free; V(BR)DSS Min (V): 30; Mounting Technology: Surface Mount; ComponentLink1Description: Manufacturer URL; ComponentLink1URL: http://www.onsemi.com/; ComponentLink2Description: Datasheet; ComponentLink2URL: http://www.onsemi.com/pub_link/Collateral/NVTFS4823N-D.PDF; ComponentLink3Description: Package Specification; ComponentLink3URL: http://www.onsemi.com/pub_link/Collateral/511AB.PDF
footprint ONSC-WDFN-8-511AB_V (DFN, 8-Leads, Body 3.05x3.05mm, Pitch 0.65mm)
pins: 1 S, 2 S, 3 S, 4 G, 5 D
text: 1, 2, 3

## NVTFS4823NWFTWG
designator Q?
Power MOSFET, 30 V, 30 A, 10.5 mOhm, Single N-Channel, 8-Pin WDFN, Pb-Free, Tape and Reel; Manufacturer: On Semiconductor; PartNumber: NVTFS4823NWFTWG; Channel Polarity: N Channel; Ciss Typ (pF): 750; Coss Typ (pF): 175; Crss Typ (pF): 100; ID Max (A): 30; Qrr Typ (nC): 5; VGS Max (V): 20; VGS(th) Max (V): 2.5; DatasheetVersion: Rev. 2; PackageVersion: Rev. D, 04/2012; PackageReference: WDFN-8-511AB; PackageDescription: 8-Pin Small Outline No-Lead, Body 3.05 x 3.05 mm, Pitch 0.65 mm; Supplier 1: Newark; Supplier Part Number 1: 11X3736; Supplier 2: Mouser; Supplier Part Number 2: 863-NVTFS4823NWFTWG; Configuration: Single; Package Type: u8FL / WDFN-8; Packing: Tape and Reel; RoHS: Pb-Free; V(BR)DSS Min (V): 30; Mounting Technology: Surface Mount; ComponentLink1Description: Manufacturer URL; ComponentLink1URL: http://www.onsemi.com/; ComponentLink2Description: Datasheet; ComponentLink2URL: http://www.onsemi.com/pub_link/Collateral/NVTFS4823N-D.PDF; ComponentLink3Description: Package Specification; ComponentLink3URL: http://www.onsemi.com/pub_link/Collateral/511AB.PDF
footprint ONSC-WDFN-8-511AB_V (DFN, 8-Leads, Body 3.05x3.05mm, Pitch 0.65mm)
pins: 1 S, 2 S, 3 S, 4 G, 5 D
text: 1, 2, 3

## NVTFS4824NTAG
designator Q?
Power MOSFET, 30 V, 46 A, 4.7 mOhm, Single N-Channel, 8-Pin WDFN, Pb-Free, Tape and Reel; Manufacturer: On Semiconductor; PartNumber: NVTFS4824NTAG; Channel Polarity: N Channel; Ciss Typ (pF): 1740; Coss Typ (pF): 360; Crss Typ (pF): 200; ID Max (A): 46; Qrr Typ (nC): 8.8; V(BR)DSS Min (V): 30; VGS Max (V): 20; VGS(th) Max (V): 2.5; DatasheetVersion: Rev. 2; PackageVersion: Rev. D, 04/2012; PackageReference: WDFN-8-511AB; PackageDescription: 8-Pin Small Outline No-Lead, Body 3.05 x 3.05 mm, Pitch 0.65 mm; Supplier 1: Digi-Key; Supplier Part Number 1: NVTFS4824NTAG-ND; Supplier 2: Mouser; Supplier Part Number 2: 863-NVTFS4824NTAG; Configuration: Single; Package Type: u8FL / WDFN-8; Packing: Tape and Reel; RoHS: Pb-Free; Mounting Technology: Surface Mount; ComponentLink1Description: Manufacturer URL; ComponentLink1URL: http://www.onsemi.com/; ComponentLink2Description: Datasheet; ComponentLink2URL: http://www.onsemi.com/pub_link/Collateral/NVTFS4824N-D.PDF; ComponentLink3Description: Package Specification; ComponentLink3URL: http://www.onsemi.com/pub_link/Collateral/511AB.PDF
footprint ONSC-WDFN-8-511AB_V (DFN, 8-Leads, Body 3.05x3.05mm, Pitch 0.65mm)
pins: 1 S, 2 S, 3 S, 4 G, 5 D
text: 1, 2, 3

## NVTFS4824NTWG
designator Q?
Power MOSFET, 30 V, 46 A, 4.7 mOhm, Single N-Channel, 8-Pin WDFN, Pb-Free, Tape and Reel; Manufacturer: On Semiconductor; PartNumber: NVTFS4824NTWG; Channel Polarity: N Channel; Ciss Typ (pF): 1740; Coss Typ (pF): 360; Crss Typ (pF): 200; ID Max (A): 46; Qrr Typ (nC): 8.8; V(BR)DSS Min (V): 30; VGS Max (V): 20; VGS(th) Max (V): 2.5; DatasheetVersion: Rev. 2; PackageVersion: Rev. D, 04/2012; PackageReference: WDFN-8-511AB; PackageDescription: 8-Pin Small Outline No-Lead, Body 3.05 x 3.05 mm, Pitch 0.65 mm; Supplier 1: Digi-Key; Supplier Part Number 1: NVTFS4824NTWG-ND; Supplier 2: Mouser; Supplier Part Number 2: 863-NVTFS4824NTWG; Configuration: Single; Package Type: u8FL / WDFN-8; Packing: Tape and Reel; RoHS: Pb-Free; Mounting Technology: Surface Mount; ComponentLink1Description: Manufacturer URL; ComponentLink1URL: http://www.onsemi.com/; ComponentLink2Description: Datasheet; ComponentLink2URL: http://www.onsemi.com/pub_link/Collateral/NVTFS4824N-D.PDF; ComponentLink3Description: Package Specification; ComponentLink3URL: http://www.onsemi.com/pub_link/Collateral/511AB.PDF
footprint ONSC-WDFN-8-511AB_V (DFN, 8-Leads, Body 3.05x3.05mm, Pitch 0.65mm)
pins: 1 S, 2 S, 3 S, 4 G, 5 D
text: 1, 2, 3

## NVTFS4824NWFTAG
designator Q?
Power MOSFET, 30 V, 46 A, 4.7 mOhm, Single N-Channel, 8-Pin WDFN, Pb-Free, Tape and Reel; Manufacturer: On Semiconductor; PartNumber: NVTFS4824NWFTAG; Channel Polarity: N Channel; Ciss Typ (pF): 1740; Coss Typ (pF): 360; Crss Typ (pF): 200; ID Max (A): 46; Qrr Typ (nC): 8.8; V(BR)DSS Min (V): 30; VGS Max (V): 20; VGS(th) Max (V): 2.5; DatasheetVersion: Rev. 2; PackageVersion: Rev. D, 04/2012; PackageReference: WDFN-8-511AB; PackageDescription: 8-Pin Small Outline No-Lead, Body 3.05 x 3.05 mm, Pitch 0.65 mm; Supplier 1: Newark; Supplier Part Number 1: 11X3737; Supplier 2: Mouser; Supplier Part Number 2: 863-NVTFS4824NWFTAG; Configuration: Single; Package Type: u8FL / WDFN-8; Packing: Tape and Reel; RoHS: Pb-Free; Mounting Technology: Surface Mount; ComponentLink1Description: Manufacturer URL; ComponentLink1URL: http://www.onsemi.com/; ComponentLink2Description: Datasheet; ComponentLink2URL: http://www.onsemi.com/pub_link/Collateral/NVTFS4824N-D.PDF; ComponentLink3Description: Package Specification; ComponentLink3URL: http://www.onsemi.com/pub_link/Collateral/511AB.PDF
footprint ONSC-WDFN-8-511AB_V (DFN, 8-Leads, Body 3.05x3.05mm, Pitch 0.65mm)
pins: 1 S, 2 S, 3 S, 4 G, 5 D
text: 1, 2, 3

## NVTFS4824NWFTWG
designator Q?
Power MOSFET, 30 V, 46 A, 4.7 mOhm, Single N-Channel, 8-Pin WDFN, Pb-Free, Tape and Reel; Manufacturer: On Semiconductor; PartNumber: NVTFS4824NWFTWG; Channel Polarity: N Channel; Ciss Typ (pF): 1740; Coss Typ (pF): 360; Crss Typ (pF): 200; ID Max (A): 46; Qrr Typ (nC): 8.8; V(BR)DSS Min (V): 30; VGS Max (V): 20; VGS(th) Max (V): 2.5; DatasheetVersion: Rev. 2; PackageVersion: Rev. D, 04/2012; PackageReference: WDFN-8-511AB; PackageDescription: 8-Pin Small Outline No-Lead, Body 3.05 x 3.05 mm, Pitch 0.65 mm; Supplier 1: Newark; Supplier Part Number 1: 11X3738; Supplier 2: Mouser; Supplier Part Number 2: 863-NVTFS4824NWFTWG; Configuration: Single; Package Type: u8FL / WDFN-8; Packing: Tape and Reel; RoHS: Pb-Free; Mounting Technology: Surface Mount; ComponentLink1Description: Manufacturer URL; ComponentLink1URL: http://www.onsemi.com/; ComponentLink2Description: Datasheet; ComponentLink2URL: http://www.onsemi.com/pub_link/Collateral/NVTFS4824N-D.PDF; ComponentLink3Description: Package Specification; ComponentLink3URL: http://www.onsemi.com/pub_link/Collateral/511AB.PDF
footprint ONSC-WDFN-8-511AB_V (DFN, 8-Leads, Body 3.05x3.05mm, Pitch 0.65mm)
pins: 1 S, 2 S, 3 S, 4 G, 5 D
text: 1, 2, 3

## NVTFS5116PLTAG
designator Q?
Power MOSFET, -60 V, -14 A, 52 mOhm, Single P-Channel, 8-Pin WDFN, Pb-Free, Tape and Reel; Manufacturer: On Semiconductor; PartNumber: NVTFS5116PLTAG; Channel Polarity: P Channel; Ciss Typ (pF): 1258; Coss Typ (pF): 127; Crss Typ (pF): 84; ID Max (A): 14; Qrr Typ (nC): 24; V(BR)DSS Min (V): 60; VGS Max (V): 20; VGS(th) Max (V): 3; DatasheetVersion: Rev. 2; PackageVersion: Rev. D, 04/2012; PackageReference: WDFN-8-511AB; PackageDescription: 8-Pin Small Outline No-Lead, Body 3.05 x 3.05 mm, Pitch 0.65 mm; Supplier 1: Digi-Key; Supplier Part Number 1: NVTFS5116PLTAG-ND; Supplier 2: Newark; Supplier Part Number 2: 65T1524; Supplier 3: Newark; Supplier Part Number 3: 95W2776; Supplier 4: Mouser; Supplier Part Number 4: 863-NVTFS5116PLTAG; Configuration: Single; Package Type: u8FL / WDFN-8; Packing: Tape and Reel; RoHS: Pb-Free; Mounting Technology: Surface Mount; ComponentLink1Description: Manufacturer URL; ComponentLink1URL: http://www.onsemi.com/; ComponentLink2Description: Datasheet; ComponentLink2URL: http://www.onsemi.com/pub_link/Collateral/NVTFS5116PL-D.PDF; ComponentLink3Description: Package Specification; ComponentLink3URL: http://www.onsemi.com/pub_link/Collateral/511AB.PDF
footprint ONSC-WDFN-8-511AB_V (DFN, 8-Leads, Body 3.05x3.05mm, Pitch 0.65mm)
pins: 1 S, 2 S, 3 S, 4 G, 5 D
text: 1, 2, 3

## NVTFS5116PLTWG
designator Q?
Power MOSFET, -60 V, -14 A, 52 mOhm, Single P-Channel, 8-Pin WDFN, Pb-Free, Tape and Reel; Manufacturer: On Semiconductor; PartNumber: NVTFS5116PLTWG; Channel Polarity: P Channel; Ciss Typ (pF): 1258; Coss Typ (pF): 127; Crss Typ (pF): 84; ID Max (A): 14; Qrr Typ (nC): 24; V(BR)DSS Min (V): 60; VGS Max (V): 20; VGS(th) Max (V): 3; DatasheetVersion: Rev. 2; PackageVersion: Rev. D, 04/2012; PackageReference: WDFN-8-511AB; PackageDescription: 8-Pin Small Outline No-Lead, Body 3.05 x 3.05 mm, Pitch 0.65 mm; Supplier 1: Digi-Key; Supplier Part Number 1: NVTFS5116PLTWG-ND; Supplier 2: Mouser; Supplier Part Number 2: 863-NVTFS5116PLTWG; Configuration: Single; Package Type: u8FL / WDFN-8; Packing: Tape and Reel; RoHS: Pb-Free; Mounting Technology: Surface Mount; ComponentLink1Description: Manufacturer URL; ComponentLink1URL: http://www.onsemi.com/; ComponentLink2Description: Datasheet; ComponentLink2URL: http://www.onsemi.com/pub_link/Collateral/NVTFS5116PL-D.PDF; ComponentLink3Description: Package Specification; ComponentLink3URL: http://www.onsemi.com/pub_link/Collateral/511AB.PDF
footprint ONSC-WDFN-8-511AB_V (DFN, 8-Leads, Body 3.05x3.05mm, Pitch 0.65mm)
pins: 1 S, 2 S, 3 S, 4 G, 5 D
text: 1, 2, 3

## NVTFS5116PLWFTAG
designator Q?
Power MOSFET, -60 V, -14 A, 52 mOhm, Single P-Channel, 8-Pin WDFN, Pb-Free, Tape and Reel; Manufacturer: On Semiconductor; PartNumber: NVTFS5116PLWFTAG; Channel Polarity: P Channel; Ciss Typ (pF): 1258; Coss Typ (pF): 127; Crss Typ (pF): 84; ID Max (A): 14; Qrr Typ (nC): 24; V(BR)DSS Min (V): 60; VGS Max (V): 20; VGS(th) Max (V): 3; DatasheetVersion: Rev. 2; PackageVersion: Rev. D, 04/2012; PackageReference: WDFN-8-511AB; PackageDescription: 8-Pin Small Outline No-Lead, Body 3.05 x 3.05 mm, Pitch 0.65 mm; Supplier 1: Newark; Supplier Part Number 1: 11X3739; Supplier 2: Mouser; Supplier Part Number 2: 863-NVTFS5116PLWFTAG; Configuration: Single; Package Type: u8FL / WDFN-8; Packing: Tape and Reel; RoHS: Pb-Free; Mounting Technology: Surface Mount; ComponentLink1Description: Manufacturer URL; ComponentLink1URL: http://www.onsemi.com/; ComponentLink2Description: Datasheet; ComponentLink2URL: http://www.onsemi.com/pub_link/Collateral/NVTFS5116PL-D.PDF; ComponentLink3Description: Package Specification; ComponentLink3URL: http://www.onsemi.com/pub_link/Collateral/511AB.PDF
footprint ONSC-WDFN-8-511AB_V (DFN, 8-Leads, Body 3.05x3.05mm, Pitch 0.65mm)
pins: 1 S, 2 S, 3 S, 4 G, 5 D
text: 1, 2, 3

## NVTFS5116PLWFTWG
designator Q?
Power MOSFET, -60 V, -14 A, 52 mOhm, Single P-Channel, 8-Pin WDFN, Pb-Free, Tape and Reel; Manufacturer: On Semiconductor; PartNumber: NVTFS5116PLWFTWG; Channel Polarity: P Channel; Ciss Typ (pF): 1258; Coss Typ (pF): 127; Crss Typ (pF): 84; ID Max (A): 14; Qrr Typ (nC): 24; V(BR)DSS Min (V): 60; VGS Max (V): 20; VGS(th) Max (V): 3; DatasheetVersion: Rev. 2; PackageVersion: Rev. D, 04/2012; PackageReference: WDFN-8-511AB; PackageDescription: 8-Pin Small Outline No-Lead, Body 3.05 x 3.05 mm, Pitch 0.65 mm; Supplier 1: Newark; Supplier Part Number 1: 11X3740; Supplier 2: Mouser; Supplier Part Number 2: 863-NVTFS5116PLWFTWG; Configuration: Single; Package Type: u8FL / WDFN-8; Packing: Tape and Reel; RoHS: Pb-Free; Mounting Technology: Surface Mount; ComponentLink1Description: Manufacturer URL; ComponentLink1URL: http://www.onsemi.com/; ComponentLink2Description: Datasheet; ComponentLink2URL: http://www.onsemi.com/pub_link/Collateral/NVTFS5116PL-D.PDF; ComponentLink3Description: Package Specification; ComponentLink3URL: http://www.onsemi.com/pub_link/Collateral/511AB.PDF
footprint ONSC-WDFN-8-511AB_V (DFN, 8-Leads, Body 3.05x3.05mm, Pitch 0.65mm)
pins: 1 S, 2 S, 3 S, 4 G, 5 D
text: 1, 2, 3

## NVTFS5124PLTAG
designator Q?
Power MOSFET, -60 V, -6 A, 260 mOhm, Single P-Channel, 8-Pin WDFN, Pb-Free, Tape and Reel; Manufacturer: On Semiconductor; PartNumber: NVTFS5124PLTAG; Channel Polarity: P Channel; Ciss Typ (pF): 250; Coss Typ (pF): 27; Crss Typ (pF): 17; ID Max (A): 6; Qrr Typ (nC): 19; V(BR)DSS Min (V): 60; VGS Max (V): 20; VGS(th) Max (V): 2.5; DatasheetVersion: Rev. 2; PackageVersion: Rev. D, 04/2012; PackageReference: WDFN-8-511AB; PackageDescription: 8-Pin Small Outline No-Lead, Body 3.05 x 3.05 mm, Pitch 0.65 mm; Supplier 1: Newark; Supplier Part Number 1: 60W1863; Supplier 2: Mouser; Supplier Part Number 2: 863-NVTFS5124PLTAG; Configuration: Single; Package Type: u8FL / WDFN-8; Packing: Tape and Reel; RoHS: Pb-Free; Mounting Technology: Surface Mount; ComponentLink1Description: Manufacturer URL; ComponentLink1URL: http://www.onsemi.com/; ComponentLink2Description: Datasheet; ComponentLink2URL: http://www.onsemi.com/pub_link/Collateral/NVTFS5124PL-D.PDF; ComponentLink3Description: Package Specification; ComponentLink3URL: http://www.onsemi.com/pub_link/Collateral/511AB.PDF
footprint ONSC-WDFN-8-511AB_V (DFN, 8-Leads, Body 3.05x3.05mm, Pitch 0.65mm)
pins: 1 S, 2 S, 3 S, 4 G, 5 D
text: 1, 2, 3

## NVTFS5124PLTWG
designator Q?
Power MOSFET, -60 V, -6 A, 260 mOhm, Single P-Channel, 8-Pin WDFN, Pb-Free, Tape and Reel; Manufacturer: On Semiconductor; PartNumber: NVTFS5124PLTWG; Channel Polarity: P Channel; Ciss Typ (pF): 250; Coss Typ (pF): 27; Crss Typ (pF): 17; ID Max (A): 6; Qrr Typ (nC): 19; V(BR)DSS Min (V): 60; VGS Max (V): 20; VGS(th) Max (V): 2.5; DatasheetVersion: Rev. 2; PackageVersion: Rev. D, 04/2012; PackageReference: WDFN-8-511AB; PackageDescription: 8-Pin Small Outline No-Lead, Body 3.05 x 3.05 mm, Pitch 0.65 mm; Supplier 1: Newark; Supplier Part Number 1: 60W1864; Supplier 2: Mouser; Supplier Part Number 2: 863-NVTFS5124PLTWG; Configuration: Single; Package Type: u8FL / WDFN-8; Packing: Tape and Reel; RoHS: Pb-Free; Mounting Technology: Surface Mount; ComponentLink1Description: Manufacturer URL; ComponentLink1URL: http://www.onsemi.com/; ComponentLink2Description: Datasheet; ComponentLink2URL: http://www.onsemi.com/pub_link/Collateral/NVTFS5124PL-D.PDF; ComponentLink3Description: Package Specification; ComponentLink3URL: http://www.onsemi.com/pub_link/Collateral/511AB.PDF
footprint ONSC-WDFN-8-511AB_V (DFN, 8-Leads, Body 3.05x3.05mm, Pitch 0.65mm)
pins: 1 S, 2 S, 3 S, 4 G, 5 D
text: 1, 2, 3

## NVTFS5124PLWFTAG
designator Q?
Power MOSFET, -60 V, -6 A, 260 mOhm, Single P-Channel, 8-Pin WDFN, Pb-Free, Tape and Reel; Manufacturer: On Semiconductor; PartNumber: NVTFS5124PLWFTAG; Channel Polarity: P Channel; Ciss Typ (pF): 250; Coss Typ (pF): 27; Crss Typ (pF): 17; ID Max (A): 6; Qrr Typ (nC): 19; V(BR)DSS Min (V): 60; VGS Max (V): 20; VGS(th) Max (V): 2.5; DatasheetVersion: Rev. 2; PackageVersion: Rev. D, 04/2012; PackageReference: WDFN-8-511AB; PackageDescription: 8-Pin Small Outline No-Lead, Body 3.05 x 3.05 mm, Pitch 0.65 mm; Supplier 1: Newark; Supplier Part Number 1: 11X3741; Supplier 2: Mouser; Supplier Part Number 2: 863-NVTFS5124PLWFTAG; Configuration: Single; Package Type: u8FL / WDFN-8; Packing: Tape and Reel; RoHS: Pb-Free; Mounting Technology: Surface Mount; ComponentLink1Description: Manufacturer URL; ComponentLink1URL: http://www.onsemi.com/; ComponentLink2Description: Datasheet; ComponentLink2URL: http://www.onsemi.com/pub_link/Collateral/NVTFS5124PL-D.PDF; ComponentLink3Description: Package Specification; ComponentLink3URL: http://www.onsemi.com/pub_link/Collateral/511AB.PDF
footprint ONSC-WDFN-8-511AB_V (DFN, 8-Leads, Body 3.05x3.05mm, Pitch 0.65mm)
pins: 1 S, 2 S, 3 S, 4 G, 5 D
text: 1, 2, 3

## NVTFS5124PLWFTWG
designator Q?
Power MOSFET, -60 V, -6 A, 260 mOhm, Single P-Channel, 8-Pin WDFN, Pb-Free, Tape and Reel; Manufacturer: On Semiconductor; PartNumber: NVTFS5124PLWFTWG; Channel Polarity: P Channel; Ciss Typ (pF): 250; Coss Typ (pF): 27; Crss Typ (pF): 17; ID Max (A): 6; Qrr Typ (nC): 19; V(BR)DSS Min (V): 60; VGS Max (V): 20; VGS(th) Max (V): 2.5; DatasheetVersion: Rev. 2; PackageVersion: Rev. D, 04/2012; PackageReference: WDFN-8-511AB; PackageDescription: 8-Pin Small Outline No-Lead, Body 3.05 x 3.05 mm, Pitch 0.65 mm; Supplier 1: Newark; Supplier Part Number 1: 11X3742; Supplier 2: Mouser; Supplier Part Number 2: 863-NVTFS5124PLWFTWG; Configuration: Single; Package Type: u8FL / WDFN-8; Packing: Tape and Reel; RoHS: Pb-Free; Mounting Technology: Surface Mount; ComponentLink1Description: Manufacturer URL; ComponentLink1URL: http://www.onsemi.com/; ComponentLink2Description: Datasheet; ComponentLink2URL: http://www.onsemi.com/pub_link/Collateral/NVTFS5124PL-D.PDF; ComponentLink3Description: Package Specification; ComponentLink3URL: http://www.onsemi.com/pub_link/Collateral/511AB.PDF
footprint ONSC-WDFN-8-511AB_V (DFN, 8-Leads, Body 3.05x3.05mm, Pitch 0.65mm)
pins: 1 S, 2 S, 3 S, 4 G, 5 D
text: 1, 2, 3